# Altium schematic symbol library Connectors.SchLib: 62 symbols
Pins are listed as number, name and electrical type; pins without a type are passive.

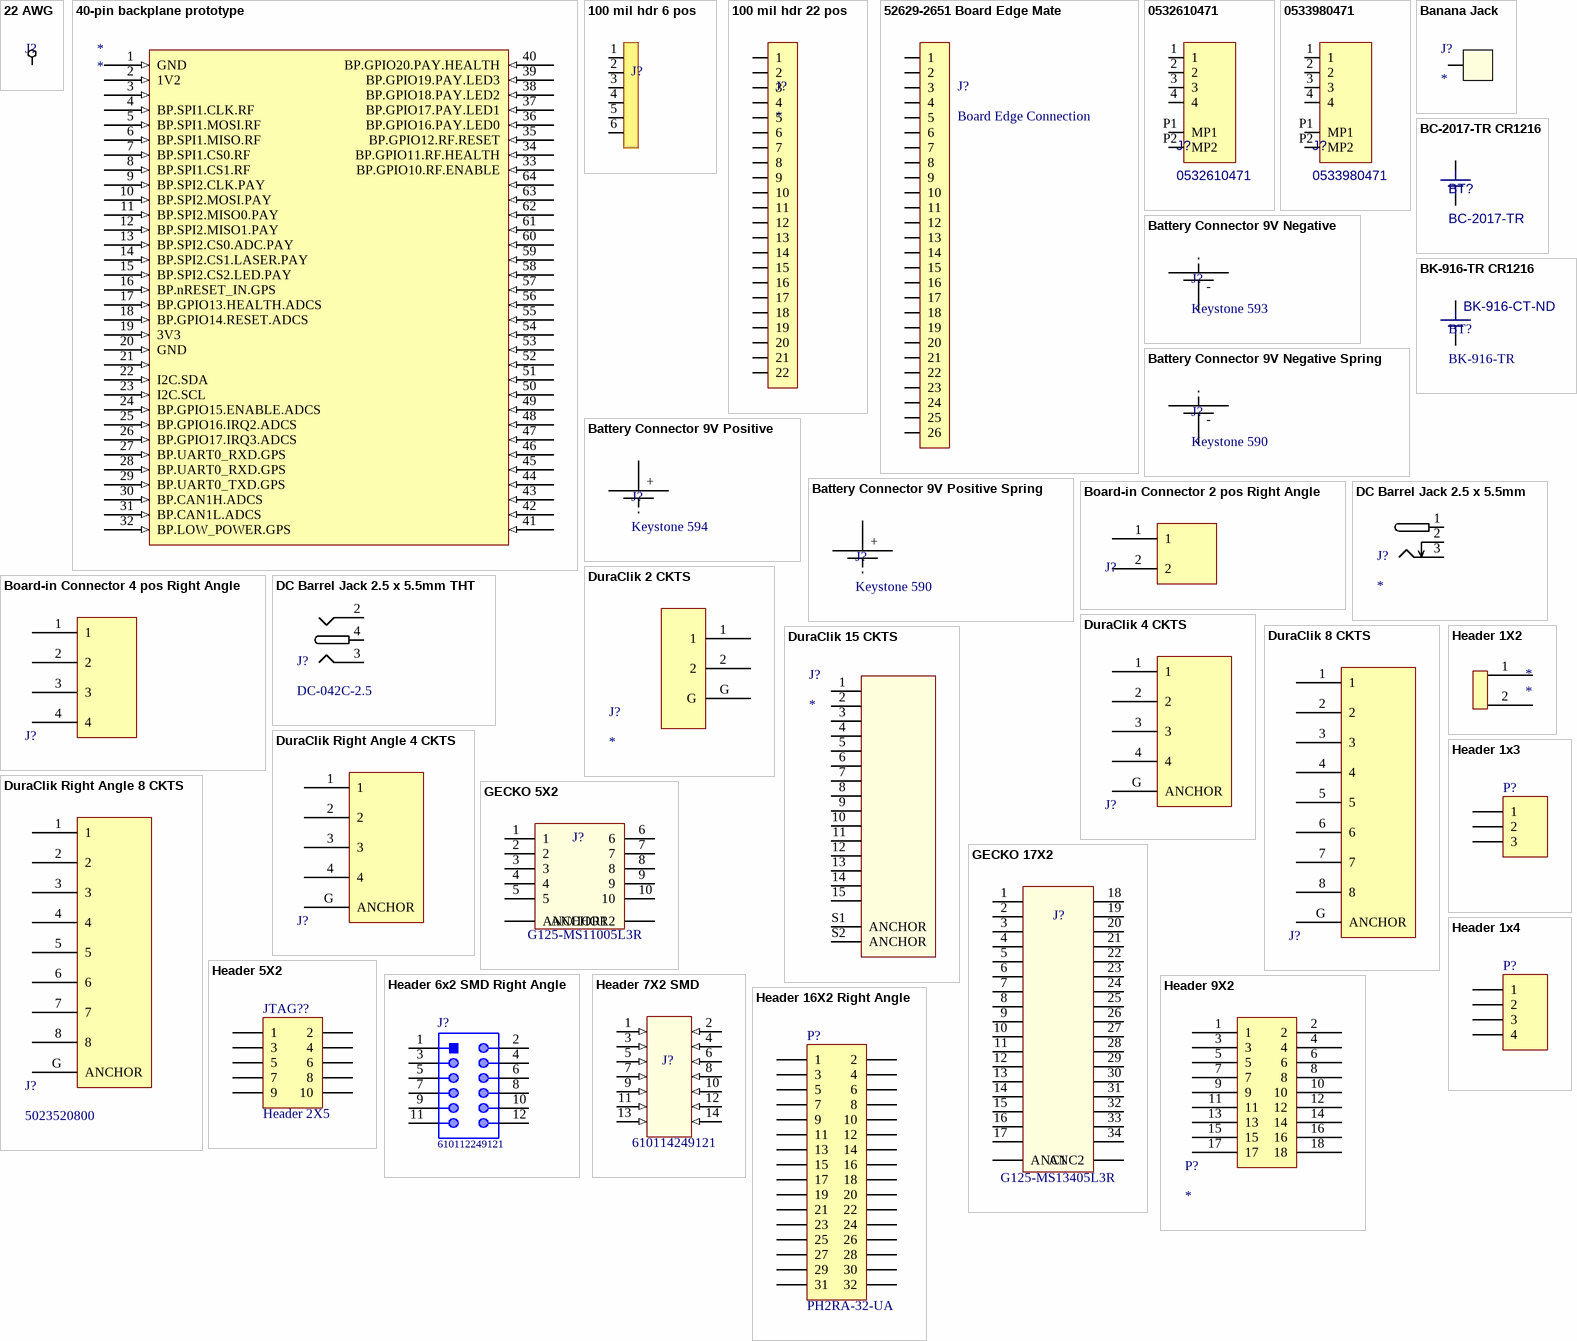
[diagram p0: symbols 22 AWG to Header 16X2 Right Angle]

## 22 AWG
designator J?  (value not drawn)
Header for 22 AWG wire
footprint 22 AWG (Hole for 22 AWG wire)
pins: 1

## 40-pin backplane prototype
designator *
pins: 1 GND (in), 2 1V2 (in), 3 (in), 4 BP.SPI1.CLK.RF (in), 5 BP.SPI1.MOSI.RF (in), 6 BP.SPI1.MISO.RF (in), 7 BP.SPI1.CS0.RF (in), 8 BP.SPI1.CS1.RF (in), 9 BP.SPI2.CLK.PAY (in), 10 BP.SPI2.MOSI.PAY (in), 11 BP.SPI2.MISO0.PAY (in), 12 BP.SPI2.MISO1.PAY (in), 13 BP.SPI2.CS0.ADC.PAY (in), 14 BP.SPI2.CS1.LASER.PAY (in), 15 BP.SPI2.CS2.LED.PAY (in), 16 BP.nRESET_IN.GPS (in), 17 BP.GPIO13.HEALTH.ADCS (in), 18 BP.GPIO14.RESET.ADCS (in), 19 3V3 (in), 20 GND (in), 21 (in), 22 I2C.SDA (in), 23 I2C.SCL (in), 24 BP.GPIO15.ENABLE.ADCS (in), 25 BP.GPIO16.IRQ2.ADCS (in), 26 BP.GPIO17.IRQ3.ADCS (in), 27 BP.UART0_RXD.GPS (in), 28 BP.UART0_RXD.GPS (in), 29 BP.UART0_TXD.GPS (in), 30 BP.CAN1H.ADCS (in), 31 BP.CAN1L.ADCS (in), 32 BP.LOW_POWER.GPS (in), 33 BP.GPIO10.RF.ENABLE (in), 34 BP.GPIO11.RF.HEALTH (in), 35 BP.GPIO12.RF.RESET (in), 36 BP.GPIO16.PAY.LED0 (in), 37 BP.GPIO17.PAY.LED1 (in), 38 BP.GPIO18.PAY.LED2 (in), 39 BP.GPIO19.PAY.LED3 (in), 40 BP.GPIO20.PAY.HEALTH (in), 41 (in), 42 (in), 43 (in), 44 (in), 45 (in), 46 (in), 47 (in), 48 (in), 49 (in), 50 (in), 51 (in), 52 (in), 53 (in), 54 (in), 55 (in), 56 (in), 57 (in), 58 (in), 59 (in), 60 (in), 61 (in), 62 (in), 63 (in), 64 (in)

## 100 mil hdr 6 pos
designator J?  (value not drawn)
Header, 100 mil, 6pos, tin; Supplier 1: Digi-Key; Supplier Part Number 1: A31116-ND
footprint 100MIL HDR 6 POS
pins: 1, 2, 3, 4, 5, 6

## 100 mil hdr 22 pos
designator J?
Supplier 1: Digi-Key; Supplier Part Number 1: S1012EC-22-ND
footprint 100mil hdr 22 pos
pins: 1, 2, 3, 4, 5, 6, 7, 8, 9, 10, 11, 12, 13, 14, 15, 16, 17, 18, 19, 20, 21, 22

## 52629-2651 Board Edge Mate
designator J?, comment Board Edge Connection
PCB Board Edge Mate for Molex 52629-2651 Connector
footprint 52629-2651 Board Edge Mate (Board Edge Mate for Molex 52629-2651)
pins: 1, 2, 3, 4, 5, 6, 7, 8, 9, 10, 11, 12, 13, 14, 15, 16, 17, 18, 19, 20, 21, 22, 23, 24, 25, 26

## 0532610471
designator J?
Connector Header Surface Mount, Right Angle 4 position 0.049" (1.25mm); Supplier 1: Digikey; Supplier 2: Mouser; Supplier Part Number 1: WM7622CT-ND; Supplier Part Number 2: 538-53261-0471
footprint MOLEX_0532610471
pins: 1, 2, 3, 4, P1 MP1, P2 MP2

## 0533980471
designator J?
Connector Header Surface Mount 4 position 0.049" (1.25mm); Supplier 1: Digikey; Supplier 2: Mouser; Supplier Part Number 1: WM7608CT-ND; Supplier Part Number 2: 538-53398-0471
footprint MOLEX_0533980471
pins: 1, 2, 3, 4, P1 MP1, P2 MP2

## Banana Jack
designator J?
JACK NON-INSULATED .350"; Supplier 1: Digi-Key; Supplier Part Number 1: 36-575-8-ND
footprint Banana Jack (JACK NON-INSULATED .350")
pins: 1

## Battery Connector 9V Negative
designator J?, comment Keystone 593
Supplier 1: Digi-Key; Supplier 2: Mouser; Supplier 3: LCSC; Supplier Part Number 1: 36-593-ND; Supplier Part Number 2: 534-593; Supplier Part Number 3: C238142
footprint Keystone 593 (9V Battery Clip Male)
pins: 1 + (power)
text: -

## Battery Connector 9V Negative Spring
designator J?, comment Keystone 590
Supplier 1: Digi-Key; Supplier 2: Mouser; Supplier Part Number 1: 36-590-ND; Supplier Part Number 2: 534-590
footprint Keystone 590 (9V Spring Battery Clip)
pins: 1 + (power)
text: -

## Battery Connector 9V Positive
designator J?, comment Keystone 594
Supplier 1: Digi-Key; Supplier 2: Mouser; Supplier 3: LCSC; Supplier Part Number 1: 36-594-ND; Supplier Part Number 2: 534-594; Supplier Part Number 3: C238143
footprint Keystone 594 (9V Battery Clip Female)
pins: 1 + (power)

## Battery Connector 9V Positive Spring
designator J?, comment Keystone 590
Supplier 1: Digi-Key; Supplier 2: Mouser; Supplier Part Number 1: 36-590-ND; Supplier Part Number 2: 534-590
footprint Keystone 590 (9V Spring Battery Clip)
pins: 1 + (power)

## BC-2017-TR CR1216
designator BT?, comment BC-2017-TR
Battery Retainer Coin, 12.5mm 1 Cell SMD (SMT) Tab; Supplier 1: Digikey; Supplier Part Number 1: 61-BC-2017-CT-ND
footprint BAT_BC-2017-TR
pins: 1 + (power), 2 - (power)

## BK-916-TR CR1216
designator BT?, comment BK-916-TR  Supplier Part Number 1: BK-916-CT-ND
Battery Retainer Coin, 12.0mm 1 Cell SMD (SMT) Tab, CR1216; Supplier 1: Digi-Key
footprint BAT_BK-916-TR
pins: 1 + (power), 2 + (power), 3 - (power)

## Board-in Connector 2 pos Right Angle
designator J?, comment 35022-0002  (value not drawn)
CONN PLUG 2POS 2.5MM R/A; Supplier 1: Digi-Key; Supplier Part Number 1: WM9802-ND; Supplier 2: Digi-Key; Supplier Part Number 2: WM3688CT-ND
footprint 0350220002 (CONN PLUG 4POS 2.5MM R/A)
pins: 1, 2

## Board-in Connector 4 pos Right Angle
designator J?, comment 0350220004  (value not drawn)
CONN PLUG 4POS 2.5MM R/A; Supplier 1: Digi-Key; Supplier 2: Digi-Key; Supplier Part Number 1: WM2992-ND; Supplier Part Number 2: WM3688CT-ND
footprint 0350220004 (CONN PLUG 4POS 2.5MM R/A)
pins: 1, 2, 3, 4

## DC Barrel Jack 2.5 x 5.5mm
designator J?
CONN PWR JACK 2.5X5.5MM SOLDER; Supplier 1: Digi-Key; Supplier Part Number 1: CP-002BHPJCT-ND
footprint PJ-002BH-SMT-TR (CONN PWR JACK 2.5X5.5MM SOLDER)
pins: 1, 2, 3

## DC Barrel Jack 2.5 x 5.5mm THT
designator J?, comment DC-042C-2.5
DC Power Receptacle Jack 8A 2.5mm DIP AC/DC Power Plugs & Receptacles; Voltage Rating: 24V; Supplier 3: LCSC; Supplier Part Number 3: C319121; Current Rating: 8A; Inside Contact Diameter: 2.5mm
footprint DC-042C-2.5 THT BARREL JACK (CONN PWR JACK 2.5mm SOLDER)
pins: 2, 3, 4

## DuraClik 2 CKTS
designator J?
CONN HEADER 2POS 2MM VERT SMD; Supplier 1: Digi-Key; Supplier Part Number 1: WM10862CT-ND
footprint DuraClik 2 CKTS (5600200420)
pins: 1, 2, G

## DuraClik 4 CKTS
designator J?, comment 5600200420  (value not drawn)
CONN HEADER 4POS 2MM VERT SMD; Supplier 1: Digi-Key; Supplier Part Number 1: WM10864CT-ND
footprint DuraClik 4 CKTS (5600200420)
pins: 1, 2, 3, 4, G ANCHOR

## DuraClik 8 CKTS
designator J?, comment 5600200820  (value not drawn)
CONN HEADER 8POS 2MM VERT SMD; Supplier 1: Digi-Key; Supplier Part Number 1: WM10868CT-ND
footprint DuraClik 8 CKTS (5600200820)
pins: 1, 2, 3, 4, 5, 6, 7, 8, G ANCHOR

## DuraClik 15 CKTS
designator J?
Connector Header Surface Mount 15 position 0.079" (2.00mm)
footprint DURACLIK VERT 15 CKTS (Connector Header Surface Mount 15 position 0.079" (2.00mm))
pins: 1, 2, 3, 4, 5, 6, 7, 8, 9, 10, 11, 12, 13, 14, 15, S1 ANCHOR, S2 ANCHOR

## DuraClik Right Angle 4 CKTS
designator J?, comment 5023520400  (value not drawn)
CONN HEADER 4POS 2MM R/A SMD; Supplier 1: Digi-Key; Supplier Part Number 1: WM7171CT-ND
footprint DuraClik Right Angle 4 CKTS (502352-0400)
pins: 1, 2, 3, 4, G ANCHOR

## DuraClik Right Angle 8 CKTS
designator J?, comment 5023520800
CONN HEADER 8POS 2MM R/A SMD; Supplier 1: Digi-Key; Supplier Part Number 1: WM7175CT-ND
footprint DuraClik Right Angle 8 CKTS (502352-0800)
pins: 1, 2, 3, 4, 5, 6, 7, 8, G ANCHOR

## GECKO 5X2
designator J?, comment Manufacturer Part Number: G125-MS11005L3R  (hidden comment: 5+5 Pos. Male DIL Vertical SMT Conn. Latches (T+R))
5+5 Pos. Male DIL Vertical SMT Conn. Latches (T+R) 1.25mm pitch
footprint GECKO 5X2 1.25 mm pitch (5+5 Pos. Male DIL Vertical SMT Conn. Latches (T+R))
pins: 1, 2, 3, 4, 5, 6, 7, 8, 9, 10, ANCHOR1, ANCHOR2

## GECKO 17X2
designator J?, comment Manufacturer Part Number: G125-MS13405L3R  (hidden comment: 17+17 Pos. Male DIL Vertical SMT Conn. Latches (T+R))
17+17 Pos. Male DIL Vertical SMT Conn. Latches (T+R) 1.25 mm pitch
footprint GECKO 17X2 1.25 mm pitch (17+17 Pos. Male DIL Vertical SMT Conn. Latches (T+R))
pins: 1, 2, 3, 4, 5, 6, 7, 8, 9, 10, 11, 12, 13, 14, 15, 16, 17, 18, 19, 20, 21, 22, 23, 24, 25, 26, 27, 28, 29, 30, 31, 32, 33, 34, ANCHOR1 ANC1, ANCHOR2 ANC2

## Header 1X2
designator *
footprint Header 1x2 TH Pitch 2.54mm (PinHeader 1x2 TH Pitch 2.54mm)
footprint NL_2Pin_Launch (Neuralink 2 Pin 010015 Launch)
pins: 1, 2

## Header 1x3
designator P?
Header, 3-Pin; LatestRevisionDate: 17-Jul-2002; LatestRevisionNote: Re-released for DXP Platform.; Publisher: Altium Limited
footprint HEADER 1X3 TH 2.54mm (Connector; Header; 3 Position)
signal-integrity model Connector
footprint HEADER 1X3 SMD 2.54mm (Connector; Header; 3 Position)
pins: 1, 2, 3

## Header 1x4
designator P?
Header, 4-Pin; LatestRevisionDate: 17-Jul-2002; LatestRevisionNote: Re-released for DXP Platform.; Publisher: Altium Limited
footprint HEADER 1X4 TH 2.54mm (Connector; Header; 4 Position)
signal-integrity model Connector
footprint HEADER 1X4 SMD 2.54mm (Connector; Header; 4 Position)
pins: 1, 2, 3, 4

## Header 5X2
designator JTAG??, comment Header 2X5
Header, 5-Pin, Dual row; LatestRevisionDate: 17-Jul-2002; LatestRevisionNote: Re-released for DXP Platform.; Publisher: Altium Limited
footprint HDR2X5 (Connector; Header; 5x2 Position)
signal-integrity model Connector
footprint 1.27mm header
pins: 1, 2, 3, 4, 5, 6, 7, 8, 9, 10

## Header 6x2 SMD Right Angle
designator J?, comment 610112249121
SMT Angled Pin Header WR-PHD, Pitch 2.54 mm, Dual Row, 12 pins; Manufacturer: Wurth Elektronik; Rated Current: 3A; Pin Number: 12; Gender: Male; Pitch: 2.54mm; Withstanding Voltage: 600VAC; Contact Resistance: 20mOhm; Working Voltage: 250VAC; Datasheet URL: https://katalog.we-online.de/em/datasheet/6101xx249121.pdf; Orientation: Angled; Row Number: Dual; Packaging: TapeandReel; Mounting Technology: SMT; Part Number: 610112249121; Package Reference: 610112249121; Manufacturer URL: http://www.we-online.de; Operating Temperature: -40to105degC; Publisher: WurthElektronik
footprint 610112249121 (Pin Header, pitch 2.54 mm, SMD, Angled, dual row, 12p)
pins: 1, 2, 3, 4, 5, 6, 7, 8, 9, 10, 11, 12

## Header 7X2 SMD
designator J?, comment Manufacturer Part Number 1: 610114249121  (hidden comment: CONN HEADER SMD R/A 14POS 2.54MM)
Connector Header Surface Mount, Right Angle 14 position 0.100" (2.54mm); Supplier 1: Digi-Key; Supplier Part Number 1: 732-6071-1-ND
footprint Header 7X2 SMD RIGHT CONN 2.54mm (Connector Header Surface Mount, Right Angle 14 position 0.100" (2.54mm))
pins: 1 (in), 2 (in), 3 (in), 4 (in), 5 (in), 6 (in), 7 (in), 8 (in), 9 (in), 10 (in), 11 (in), 12 (in), 13 (in), 14 (in)

## Header 9X2
designator P?
0.254mm
footprint Header 9X2
pins: 1, 2, 3, 4, 5, 6, 7, 8, 9, 10, 11, 12, 13, 14, 15, 16, 17, 18

## Header 16X2 Right Angle
designator P?, comment PH2RA-32-UA
Header, 16-Pin, Dual row, Right Angle; Supplier 1: Digi-Key; Supplier Part Number 1: 2057-PH2RA-32-UA-ND
signal-integrity model Connector
footprint Header 2X16 THT RIGHT (Connector; Header; 16x2 Position)
pins: 1, 2, 3, 4, 5, 6, 7, 8, 9, 10, 11, 12, 13, 14, 15, 16, 17, 18, 19, 20, 21, 22, 23, 24, 25, 26, 27, 28, 29, 30, 31, 32

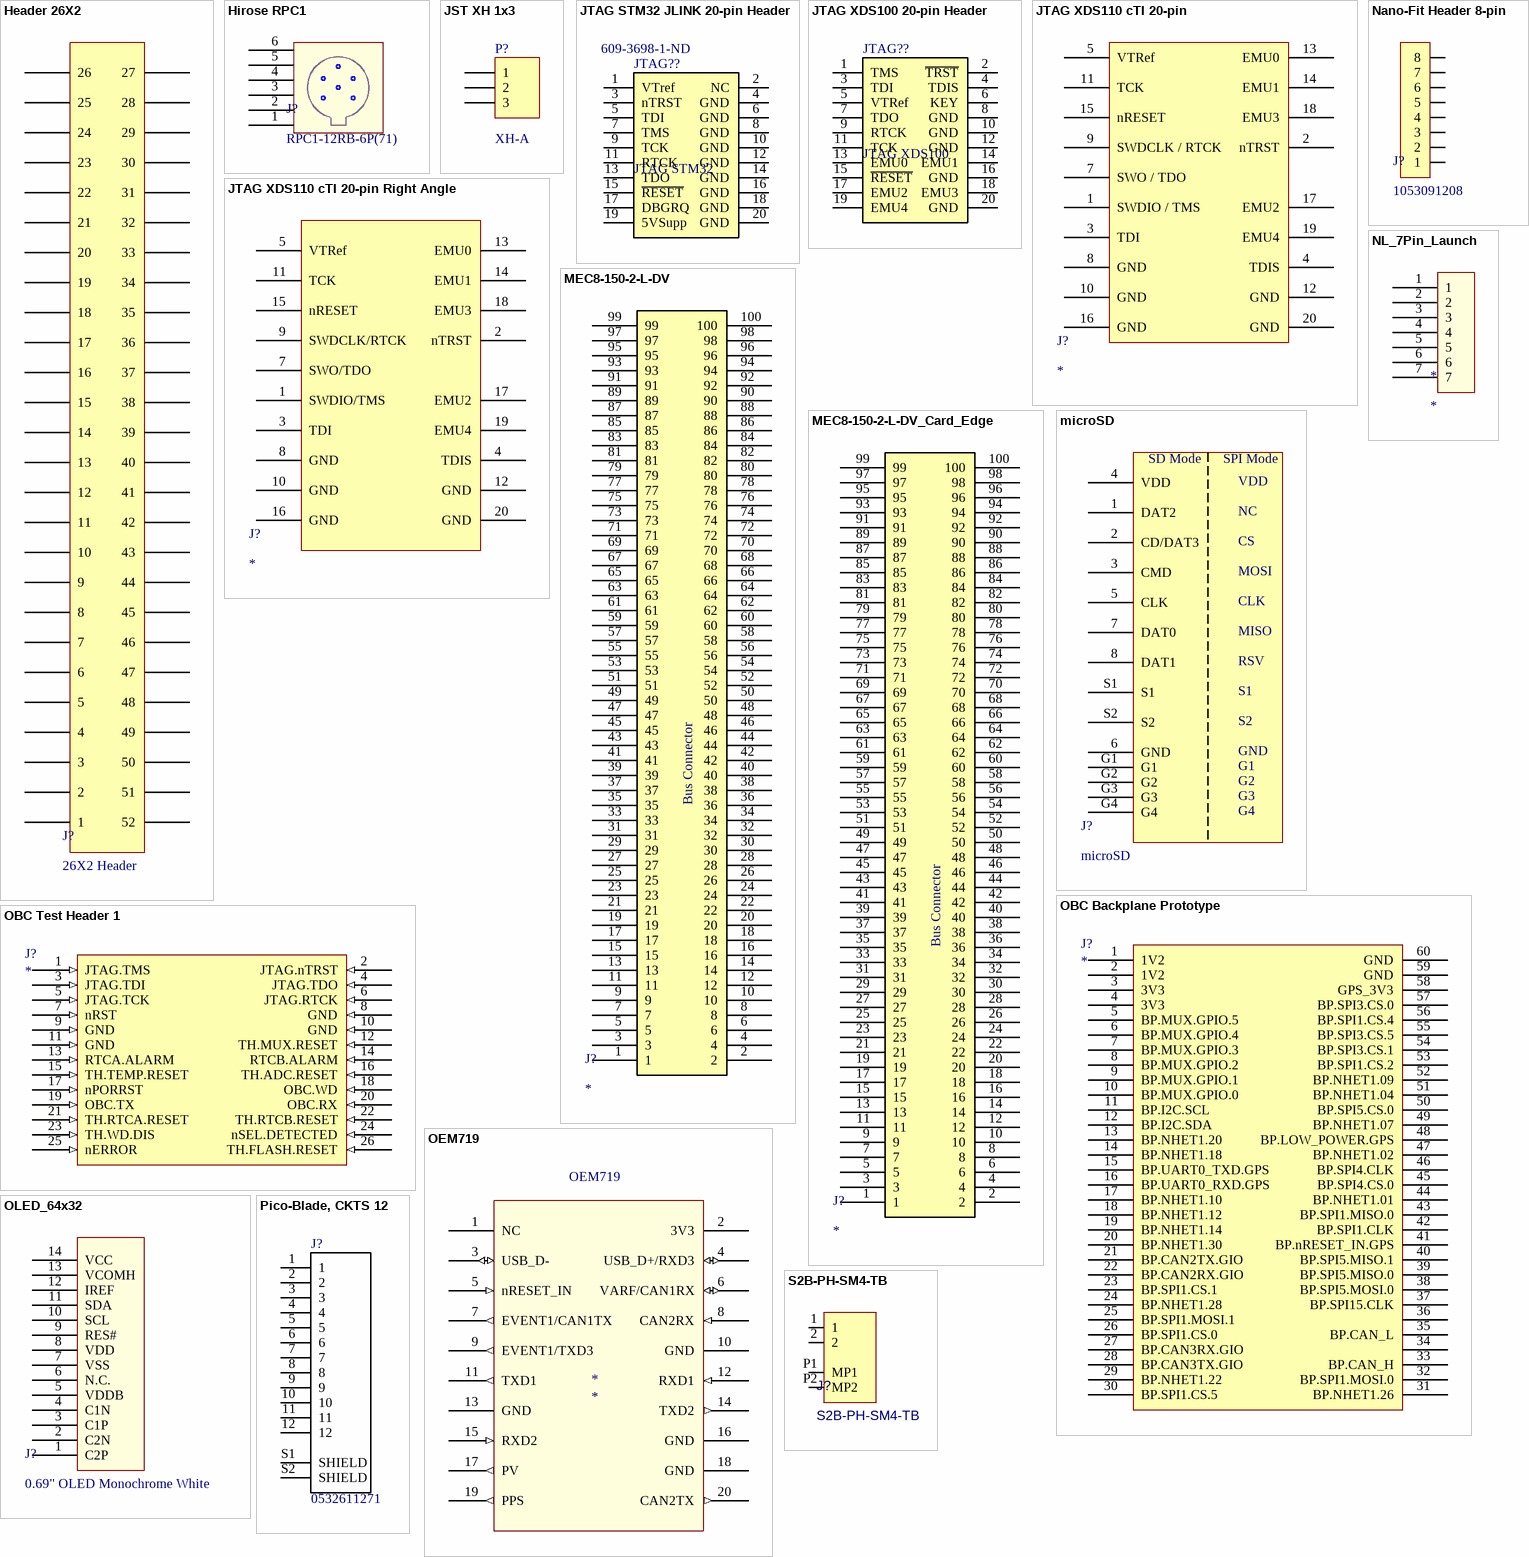
[diagram p1: symbols Header 26X2 to S2B-PH-SM4-TB]

## Header 26X2
designator J?, comment 26X2 Header
26X2 Through-Hole Header
footprint 26X2 Header
footprint Header 26x2
pins: 1, 2, 3, 4, 5, 6, 7, 8, 9, 10, 11, 12, 13, 14, 15, 16, 17, 18, 19, 20, 21, 22, 23, 24, 25, 26, 27, 28, 29, 30, 31, 32, 33, 34, 35, 36, 37, 38, 39, 40, 41, 42, 43, 44, 45, 46, 47, 48, 49, 50, 51, 52

## Hirose RPC1
designator J?, comment RPC1-12RB-6P(71)
6 Position Circular Connector Receptacle, Male Pins Solder Cup (JBC Iron Conn); Supplier 1: Digi-Key; Supplier 2: Mouser; Supplier Part Number 1: HR1817-ND; Supplier Part Number 2: 798-RPC112RB6P71
footprint HIROSE RPC 1 (6 Pin JBC Connector)
pins: 1, 2, 3, 4, 5, 6

## JST XH 1x3
designator P?, comment XH-A
XH Header Male Pin 0.098"(2.50mm) 3 Wire To Board / Wire To Wire Connector; LatestRevisionDate: 17-Jul-2002; LatestRevisionNote: Re-released for DXP Platform.; Publisher: Altium Limited; Supplier 1: Digi-Key; Supplier Part Number 1: 455-2248-ND; Supplier 3: LCSC; Supplier Part Number 3: C144394
footprint XH Header 1x3 TH 2.50(4)MM HORIZONTAL (S3B-XH-A(LF)(SN))
signal-integrity model Connector
footprint XH Header 1x3 TH 2.50(4)MM Vertical (B3B-XH-A(LF)(SN))
footprint XH Header 1x3 SMD 2.5MM HORIZONTAL (S3B-XH-A(LF)(SN))
footprint XH Header 1x3 SMD+TH 2.50(4)MM HORIZONTAL (S3B-XH-A(LF)(SN)/S3B-XH-SM4-TB(LF)(SN))
pins: 1, 2, 3

## JTAG STM32 JLINK 20-pin Header
designator JTAG??, comment JTAG STM32  Supplier Part Number 1: 609-3698-1-ND
JTAG STM32 JLINK Header, 20-Pin, Dual row, 1.27mm pitch; LatestRevisionDate: 17-Jul-2002; LatestRevisionNote: Re-released for DXP Platform.; Publisher: Altium Limited; Supplier 1: Digi-Key
signal-integrity model Connector
footprint 1.27MM HEADER 2X10 (CONN HEADER 20POS DL UNSHRD SMD)
pins: 1 VTref, 2 NC, 3 nTRST, 4 GND, 5 TDI, 6 GND, 7 TMS, 8 GND, 9 TCK, 10 GND, 11 RTCK, 12 GND, 13 TDO, 14 GND, 15 ~{RESET}, 16 GND, 17 DBGRQ, 18 GND, 19 5VSupp, 20 GND

## JTAG XDS100 20-pin Header
designator JTAG??, comment JTAG XDS100
JTAG XDS100 Header, 20-Pin, Dual row, 1.27mm pitch; LatestRevisionDate: 17-Jul-2002; LatestRevisionNote: Re-released for DXP Platform.; Publisher: Altium Limited; Supplier 1: Digi-Key; Supplier Part Number 1: 609-3698-2-ND
signal-integrity model Connector
footprint 1.27MM HEADER 2X10 (CONN HEADER 20POS DL UNSHRD SMD)
pins: 1 TMS, 2 ~{TRST}, 3 TDI, 4 TDIS, 5 VTRef, 6 KEY, 7 TDO, 8 GND, 9 RTCK, 10 GND, 11 TCK, 12 GND, 13 EMU0, 14 EMU1, 15 ~{RESET}, 16 GND, 17 EMU2, 18 EMU3, 19 EMU4, 20 GND

## JTAG XDS110 cTI 20-pin
designator J?
cTI 20-pin Header; Supplier 1: Digi-Key; Supplier Part Number 1: SAM8792-ND
footprint FTR-110-XX-XX-D
pins: 1 SWDIO / TMS, 2 nTRST, 3 TDI, 4 TDIS, 5 VTRef, 7 SWO / TDO, 8 GND, 9 SWDCLK / RTCK, 10 GND, 11 TCK, 12 GND, 13 EMU0, 14 EMU1, 15 nRESET, 16 GND, 17 EMU2, 18 EMU3, 19 EMU4, 20 GND

## JTAG XDS110 cTI 20-pin Right Angle
designator J?
HTMS-110-01-G-D-RA-006; Manufacturer Part Number: HTMS-110-01-G-D-RA-006
footprint HTMS-110-01-G-D-RA-006 (.050" X .100" High-Temp Through-hole Micro Terminal Strip)
pins: 1 SWDIO/TMS, 2 nTRST, 3 TDI, 4 TDIS, 5 VTRef, 7 SWO/TDO, 8 GND, 9 SWDCLK/RTCK, 10 GND, 11 TCK, 12 GND, 13 EMU0, 14 EMU1, 15 nRESET, 16 GND, 17 EMU2, 18 EMU3, 19 EMU4, 20 GND

## MEC8-150-2-L-DV
designator J?
Backplane Connector
footprint MEC8-120-2-L-DV-A
pins: 1, 2, 3, 4, 5, 6, 7, 8, 9, 10, 11, 12, 13, 14, 15, 16, 17, 18, 19, 20, 21, 22, 23, 24, 25, 26, 27, 28, 29, 30, 31, 32, 33, 34, 35, 36, 37, 38, 39, 40, 41, 42, 43, 44, 45, 46, 47, 48, 49, 50, 51, 52, 53, 54, 55, 56, 57, 58, 59, 60, 61, 62, 63, 64, 65, 66, 67, 68, 69, 70, 71, 72, 73, 74, 75, 76, 77, 78, 79, 80, 81, 82, 83, 84, 85, 86, 87, 88, 89, 90, 91, 92, 93, 94, 95, 96, 97, 98, 99, 100
text: Bus Connector

## MEC8-150-2-L-DV_Card_Edge
designator J?
Board Edge Connector
footprint MEC8-120-2-L-DV-A - Card Edge
pins: 1, 2, 3, 4, 5, 6, 7, 8, 9, 10, 11, 12, 13, 14, 15, 16, 17, 18, 19, 20, 21, 22, 23, 24, 25, 26, 27, 28, 29, 30, 31, 32, 33, 34, 35, 36, 37, 38, 39, 40, 41, 42, 43, 44, 45, 46, 47, 48, 49, 50, 51, 52, 53, 54, 55, 56, 57, 58, 59, 60, 61, 62, 63, 64, 65, 66, 67, 68, 69, 70, 71, 72, 73, 74, 75, 76, 77, 78, 79, 80, 81, 82, 83, 84, 85, 86, 87, 88, 89, 90, 91, 92, 93, 94, 95, 96, 97, 98, 99, 100
text: Bus Connector

## microSD
designator J?
CONN MICRO SD CARD PUSH-PULL R/A; Supplier 1: Digi-Key; Supplier Part Number 1: WM6357CT-ND
footprint 1040310811 (CONN MICRO SD CARD PUSH-PULL R/A)
pins: 1 DAT2, 2 CD/DAT3, 3 CMD, 4 VDD, 5 CLK, 6 GND, 7 DAT0, 8 DAT1, G1, G2, G3, G4, S1, S2
text: SD Mode; SPI Mode; NC; CS; MOSI; MISO; RSV

## Nano-Fit Header 8-pin
designator J?, comment 1053091208
NANO-FIT HDR VT SGL KNK 8CKT 15A; Supplier 1: Digi-Key; Supplier Part Number 1: WM15035-ND
footprint 1053091208 (NANO-FIT HDR VT SGL KNK 8CKT 15A)
pins: 1, 2, 3, 4, 5, 6, 7, 8

## NL_7Pin_Launch
designator *
footprint NL_7Pin_Launch (Neuralink 7 Pin 010015 Launch)
pins: 1, 2, 3, 4, 5, 6, 7

## OBC Backplane Prototype
designator J?
footprint 100MILHDR60
footprint 100MILHDR60 - HTP RightHand (60-pin connector for mounting on right hand side of HTP. Mates correctly with OBC (top connector). Assume right-angle connector style.)
pins: 1 1V2, 2 1V2, 3 3V3, 4 3V3, 5 BP.MUX.GPIO.5, 6 BP.MUX.GPIO.4, 7 BP.MUX.GPIO.3, 8 BP.MUX.GPIO.2, 9 BP.MUX.GPIO.1, 10 BP.MUX.GPIO.0, 11 BP.I2C.SCL, 12 BP.I2C.SDA, 13 BP.NHET1.20, 14 BP.NHET1.18, 15 BP.UART0_TXD.GPS, 16 BP.UART0_RXD.GPS, 17 BP.NHET1.10, 18 BP.NHET1.12, 19 BP.NHET1.14, 20 BP.NHET1.30, 21 BP.CAN2TX.GIO, 22 BP.CAN2RX.GIO, 23 BP.SPI1.CS.1, 24 BP.NHET1.28, 25 BP.SPI1.MOSI.1, 26 BP.SPI1.CS.0, 27 BP.CAN3RX.GIO, 28 BP.CAN3TX.GIO, 29 BP.NHET1.22, 30 BP.SPI1.CS.5, 31 BP.NHET1.26, 32 BP.SPI1.MOSI.0, 33 BP.CAN_H, 34, 35 BP.CAN_L, 36, 37 BP.SPI15.CLK, 38 BP.SPI5.MOSI.0, 39 BP.SPI5.MISO.0, 40 BP.SPI5.MISO.1, 41 BP.nRESET_IN.GPS, 42 BP.SPI1.CLK, 43 BP.SPI1.MISO.0, 44 BP.NHET1.01, 45 BP.SPI4.CS.0, 46 BP.SPI4.CLK, 47 BP.NHET1.02, 48 BP.LOW_POWER.GPS, 49 BP.NHET1.07, 50 BP.SPI5.CS.0, 51 BP.NHET1.04, 52 BP.NHET1.09, 53 BP.SPI1.CS.2, 54 BP.SPI3.CS.1, 55 BP.SPI3.CS.5, 56 BP.SPI1.CS.4, 57 BP.SPI3.CS.0, 58 GPS_3V3, 59 GND, 60 GND

## OBC Test Header 1
designator J?
OBC v1 test header
footprint 100MIL HDR 2x13
pins: 1 JTAG.TMS (in), 2 JTAG.nTRST (in), 3 JTAG.TDI (in), 4 JTAG.TDO (in), 5 JTAG.TCK (in), 6 JTAG.RTCK (in), 7 nRST (in), 8 GND (in), 9 GND (in), 10 GND (in), 11 GND (in), 12 TH.MUX.RESET (in), 13 RTCA.ALARM (in), 14 RTCB.ALARM (in), 15 TH.TEMP.RESET (in), 16 TH.ADC.RESET (in), 17 nPORRST (in), 18 OBC.WD (in), 19 OBC.TX (in), 20 OBC.RX (in), 21 TH.RTCA.RESET (in), 22 TH.RTCB.RESET (in), 23 TH.WD.DIS (in), 24 nSEL.DETECTED (in), 25 nERROR (in), 26 TH.FLASH.RESET (in)

## OEM719
designator *
Connector for Novatel OEM719 GPS.
footprint OEM719-TH-BOTTOM (OEM719 GPS through hole footprint, bottom mount)
pins: 1 NC, 2 3V3 (power), 3 USB_D- (io), 4 USB_D+/RXD3 (io), 5 nRESET_IN (in), 6 VARF/CAN1RX (io), 7 EVENT1/CAN1TX (out), 8 CAN2RX (in), 9 EVENT1/TXD3 (out), 10 GND (power), 11 TXD1 (out), 12 RXD1 (in), 13 GND (power), 14 TXD2 (out), 15 RXD2 (in), 16 GND (power), 17 PV (out), 18 GND (power), 19 PPS (out), 20 CAN2TX (out)

## OLED_64x32
designator J?, comment 0.69" OLED Monochrome White
0.69" OLED Direct Solder Monochrome White; Manufacturer Part Number: UG-9616TSWCG02; Supplier 1: LCSC; Supplier Part Number 1: C88335
footprint OLED_64x32 Flat (0.69" OLED Flat)
footprint OLED_64x32 Bent (0.69" OLED Bent)
pins: 1 C2P, 2 C2N, 3 C1P, 4 C1N, 5 VDDB, 6 N.C., 7 VSS, 8 VDD, 9 RES#, 10 SCL, 11 SDA, 12 IREF, 13 VCOMH, 14 VCC

## Pico-Blade, CKTS 12
designator J?, comment 0532611271
Picoblade Connector, 12 Circuit Single Row,  Surface Mount SMT; MF: Molex; Package: None; MP: 0532611271; SnapEDA_Link: https://www.snapeda.com/parts/0532611271/Molex/view-part/549048/?ref=snap; Price: None; Availability: Unavailable; Value: *; Supplier 1: Digi-Key; Supplier Part Number 1: 900-0532617012CT-ND
footprint Pico-Blade, RIGHT ANGLE, CKTS 12,  0.049" (1.25mm) (Pico Blade, Right Angle 12 position 0.049" (1.25mm))
footprint Pico-Blade, VERTICLE, CKTS 12,  0.049" (1.25mm) (Pico Blade, Verticle 12 position 0.049" (1.25mm))
pins: 1, 2, 3, 4, 5, 6, 7, 8, 9, 10, 11, 12, S1 SHIELD, S2 SHIELD

## S2B-PH-SM4-TB
designator J?
2 Pin JST PH SMD RA; Supplier 1: Digikey; Supplier Part Number 1: 455-S2B-PH-SM4-TBCT-ND
footprint JST_S2B-PH-SM4-TB
pins: 1, 2, P1 MP1, P2 MP2

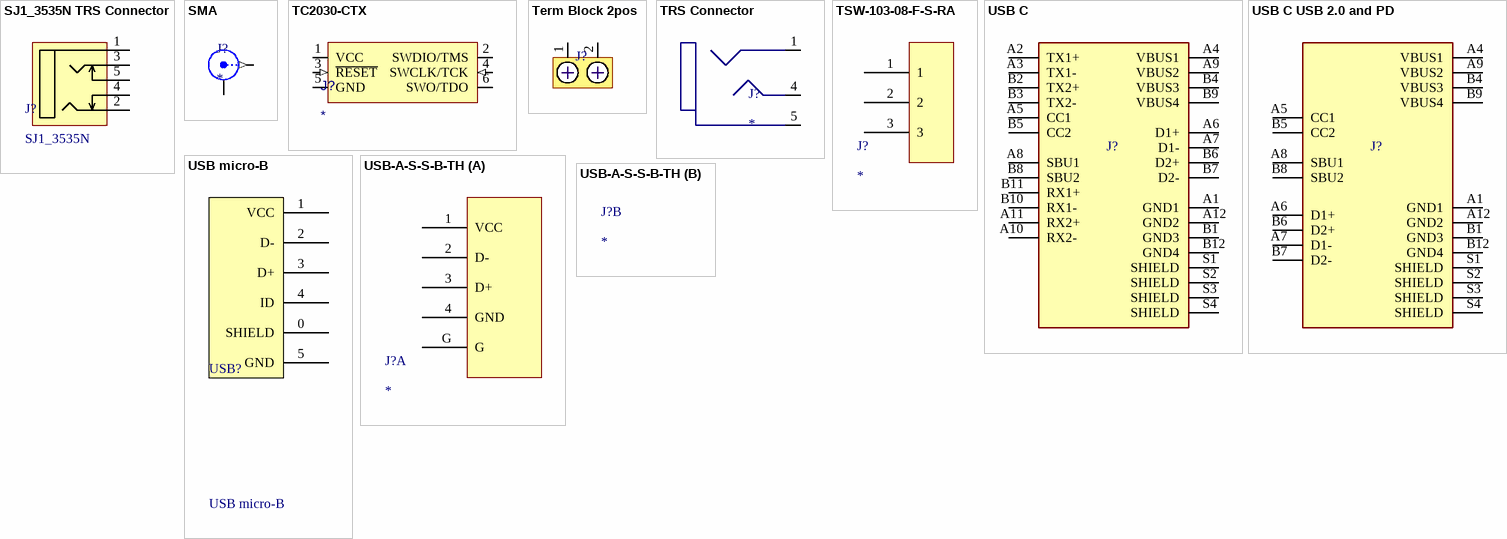
[diagram p2: symbols SJ1_3535N TRS Connector to USB-A-S-S-B-TH]

## SJ1_3535N TRS Connector
designator J?, comment SJ1_3535N
3.50mm (0.141", 1/8", Mini Plug) - Headphone Phone Jack Stereo (3 Conductor, TRS) Connector Solder; Supplier 1: Digi-Key; Supplier 2: Mouser; Supplier Part Number 1: CP1-3535N-ND; Supplier Part Number 2: 490-SJ1-3535N
footprint SJ1-3535N (Stereo TRS Switched THT)
pins: 1 (power), 2 (power), 3 (power), 4 (power), 5 (power)

## SMA
designator J?
SMA Connector; Supplier 1: Digi-Key; Supplier Part Number 1: A97594-ND
footprint SMA_CONN
footprint SMA Edge Launch (Horizontal)
pins: 1 X (out), 2 Y (power)

## TC2030-CTX
designator J?  (no BOM)
footprint TC2030-CTX-NoProg (Default Settings Test)
pins: 1 VCC (power), 2 SWDIO/TMS, 3 ~{RESET} (in), 4 SWCLK/TCK (in), 5 GND (power), 6 SWO/TDO

## Term Block 2pos
designator J?, comment Phoenix Contact 1935161  (value not drawn)
Terminal Block, 2 Position, 5mm pitch, 18A, 300V, 12-26 AWG; Manufacturer: Phoenix Contact; Manufacturer Part Number: 1935161; Supplier 1: Digi-Key; Supplier Part Number 1: 277-1667-ND
footprint Phoenix_1935161 (Phoenix Contact 1935161 2-pos terminal block)
pins: 1, 2

## TRS Connector
designator J?
Supplier 1: Digi-Key; Supplier Part Number 1: SC1489-1-ND
footprint 35RASMT2BHNTRX
pins: 1 (power), 4 (power), 5 (power)

## TSW-103-08-F-S-RA
designator J?
.025" SQ. TERMINAL STRIPS; Supplier 1: Digi-Key; Supplier Part Number 1: SAM10331-ND; Supplier 2: Digi-Key; Supplier Part Number 2: 2-881545-2-ND
footprint TSW-103-08-F-S-RA (.025" SQ. TERMINAL STRIPS)
pins: 1, 2, 3

## USB C
designator J?
USB-C USB 3.1 Gen 2, Superspeed+_ Receptacle Connector 24 Position Surface Mount, Right Angle; Through Hole; MF: Molex; MP: 1054500101; Package: None; Digi-Key_Part_Number: WM12856CT-ND; SnapEDA_Link: https://www.snapeda.com/parts/1054500101/Molex/view-part/448528/?ref=snap; Digi-Key_Purchase_URL: https://www.digikey.tw/product-detail/en/molex/1054500101/WM12856CT-ND/5843891?utm_source=snapeda&utm_medium=aggregator&utm_campaign=symbol; Value: *; Supplier 1: Digi-Key; Supplier 2: Mouser; Supplier 3: LCSC; Supplier Part Number 1: WM12856CT-ND; Supplier Part Number 2: 538-105450-0101; Supplier Part Number 3: C134092
footprint Molex USB-C (MOLEX_105450-0101)
pins: A1 GND1, A2 TX1+, A3 TX1-, A4 VBUS1, A5 CC1, A6 D1+, A7 D1-, A8 SBU1, A9 VBUS2, A10 RX2-, A11 RX2+, A12 GND2, B1 GND3, B2 TX2+, B3 TX2-, B4 VBUS3, B5 CC2, B6 D2+, B7 D2-, B8 SBU2, B9 VBUS4, B10 RX1-, B11 RX1+, B12 GND4, S1 SHIELD, S2 SHIELD, S3 SHIELD, S4 SHIELD

## USB C USB 2.0 and PD
designator J?, comment 16 Pin Mid Mount USB C  (value not drawn)
USB-C USB 2.0 5A PD 16 Position Mid Mount; Manufacturer: Jing Extension of the Electronic Co; Supplier 1: LCSC; Supplier Part Number 1: C168688
footprint USB-C - 16 Pin Mid Mount (16 Pin USB C Mid Mount)
footprint USB-C - 16 Pin Mid Mount (16 Pin USB C Mid Mount)
pins: A1 GND1, A4 VBUS1, A5 CC1, A6 D1+, A7 D1-, A8 SBU1, A9 VBUS2, A12 GND2, B1 GND3, B4 VBUS3, B5 CC2, B6 D2+, B7 D2-, B8 SBU2, B9 VBUS4, B12 GND4, S1 SHIELD, S2 SHIELD, S3 SHIELD, S4 SHIELD

## USB micro-B
designator USB?
CONN RCPT USB TYPE B 3A; Manufacturer Part Number: 629105150521; Manufacturer: Wurth Electronics Inc.; Supplier 1: Digi-Key; Supplier Part Number 1: 609-4616-1-ND
footprint USB-MicroB
pins: 0 SHIELD, 1 VCC, 2 D-, 3 D+, 4 ID, 5 GND

## USB-A-S-S-B-TH
designator J?
USB TYPE A BLACK SNGL T/H; Supplier 1: Digi-Key; Supplier Part Number 1: SAM10865-ND
footprint USB-A-S-S-B-TH (USB TYPE A BLACK SNGL T/H)
part A pins: 1 VCC, 2 D-, 3 D+, 4 GND, G